# Altium schematic symbol library ThermocoupleDrv.SchLib: 3 symbols
Pins are listed as number, name and electrical type; pins without a type are passive.

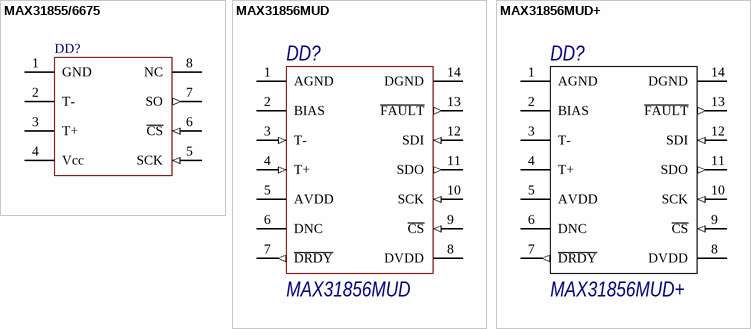
[diagram p0: symbols MAX31855/6675 to MAX31856MUD+]

## MAX31855/6675
designator DD?
footprint SOIC127P600X175-8N (SOIC, 8-Leads, Body 4,90x3,90mm, Pitch 1,27mm, IPC Medium Density)
pins: 1 GND (power), 2 T-, 3 T+, 4 Vcc (power), 5 SCK (in), 6 ~{CS} (in), 7 SO (out), 8 NC

## MAX31856MUD
designator DD?
Name: MAX31856MUD
footprint TSSOP65P640X120-14N (TSTSOP, 14-Leads, Body 5,00x4,40mm, Pitch 0,65mm, IPC Medium Density)
pins: 1 AGND (power), 2 BIAS, 3 T- (in), 4 T+ (in), 5 AVDD (power), 6 DNC, 7 ~{DRDY} (out), 8 DVDD (power), 9 ~{CS} (in), 10 SCK (in), 11 SDO (out), 12 SDI (in), 13 ~{FAULT} (out), 14 DGND (power)

## MAX31856MUD+
designator DD?
footprint TSSOP65P640X120-14N (TSTSOP, 14-Leads, Body 5,00x4,40mm, Pitch 0,65mm, IPC Medium Density)
pins: 1 AGND (power), 2 BIAS, 3 T-, 4 T+, 5 AVDD (power), 6 DNC, 7 ~{DRDY} (out), 8 DVDD (power), 9 ~{CS} (in), 10 SCK (in), 11 SDO (out), 12 SDI (in), 13 ~{FAULT} (out), 14 DGND (power)